# Altium footprint library mainboard.PcbLib: 70 footprints (part 5 of 5)
Each footprint in its own frame and in the unit in brackets; x right, y up, seen from the top. Pads: shape width x height; smd on the part's side, far side on the other; paste and mask are expansions set on the pad; w line width, h text height; cw(c..) or ccw(c..) is an arc to the next point about the centre after c.
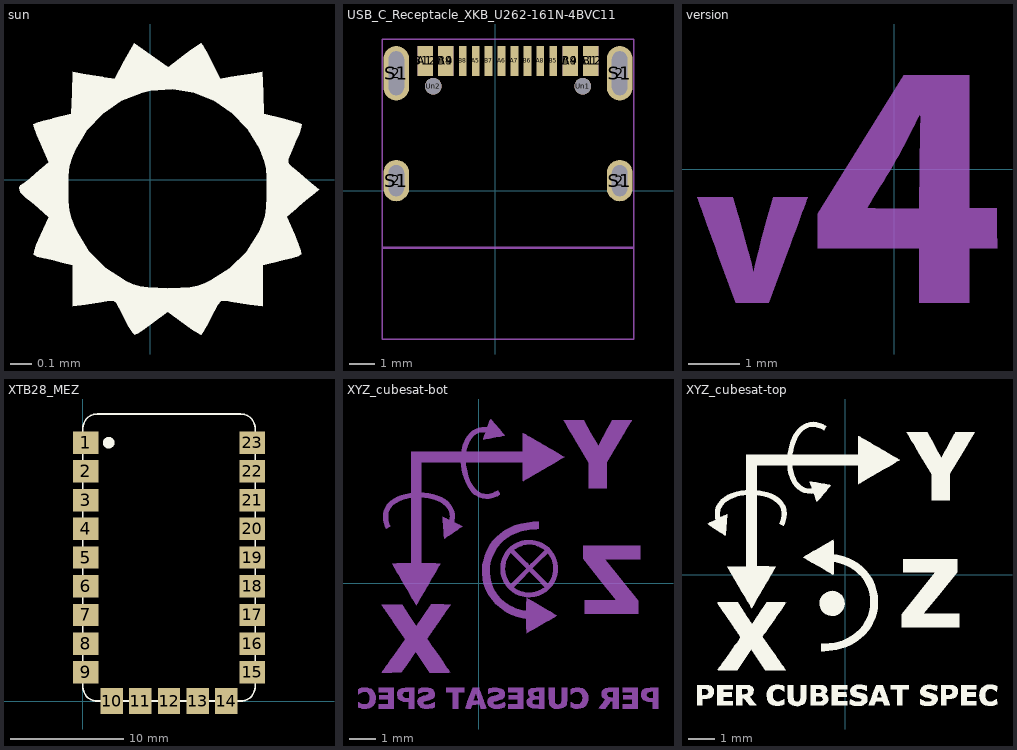
[diagram p4: the footprints below, top view; thin cyan lines are the x and y axes]

## sun [mm]
Top Overlay:
  region: 135 vertices and 1 holes, not listed, extent -0.623,-0.737 0.801,0.648

## USB_C_Receptacle_XKB_U262-161N-4BVC11 [mm]
pads (26):
  rect 0.7x1.3 on Top Paste mask-1.3: 2(-3.82,0.4) 2(4.82,0.395)
  rect 0.7x1.7 on Top Paste mask-1.7: 2(-3.82,4.545) 2(4.82,4.545)
  rect 0.6x1.15 smd mask+0.051: A1(-2.7,5.02) A4(-1.9,5.02) A9(2.9,5.02) A12(3.7,5.02)
  rect 0.3x1.15 smd mask+0.051: A5(-0.75,5.02) A6(0.25,5.02) A7(0.75,5.02) A8(1.75,5.02) B5(2.25,5.02) B6(1.25,5.02) B7(-0.25,5.02) B8(-1.25,5.02)
  rect 0.6x1.15 on Mech2 paste-1.15 mask-1.15: B1(3.7,5.02) B4(2.9,5.02) B9(-1.9,5.02) B12(-2.7,5.02)
  rrect100% 1x1.6 hole 1.2 slot 0.6 at 0 deg paste-1.6 mask+0.051: S1(-3.82,0.395) S1(4.82,0.395)
  rrect100% 1x2.1 hole 1.7 slot 0.6 at 0 deg paste-2.1 mask+0.051: S1(-3.82,4.545) S1(4.82,4.545)
  round 0.65 hole 0.65 paste-0.65 mask+0.051: Un1(3.39,4.045) Un2(-2.39,4.045)
Mechanical 4:
  lines w0.05: -4.36,-5.73 5.36,-5.73 5.36,5.87 -4.36,5.87 -4.36,-5.73
Mechanical 6:
  lines w0.1: -4.33,-2.205 5.35,-2.205
  text "J13" at 0.613,-2.777 h0.89

## version [mm]
Top Solder:
  region: -3.51,-0.549 -3.158,-0.552 -3.124,-0.673 -3.112,-0.713 -3.095,-0.774 -3.072,-0.852 -3.046,-0.944 -3.016,-1.045 -2.985,-1.153 -2.955,-1.257 -2.923,-1.368 -2.893,-1.478 -2.864,-1.582 -2.839,-1.677 -2.818,-1.758 -2.802,-1.823 -2.793,-1.864 -2.781,-1.92 -2.769,-1.966 -2.76,-1.996 -2.754,-2.007 -2.745,-1.996 -2.743,-1.984 -2.74,-1.954 -2.73,-1.902 -2.714,-1.83 -2.692,-1.74 -2.666,-1.633 -2.635,-1.513 -2.601,-1.382 -2.563,-1.241 -2.522,-1.092 -2.513,-1.058 -2.371,-0.546 -1.699,-0.546 -1.706,-0.575 -1.712,-0.591 -1.726,-0.629 -1.747,-0.687 -1.775,-0.764 -1.809,-0.857 -1.849,-0.965 -1.894,-1.086 -1.943,-1.218 -1.996,-1.359 -2.051,-1.509 -2.088,-1.607 -2.462,-2.61 -3.105,-2.617 -3.453,-1.661 -3.508,-1.51 -3.561,-1.364 -3.612,-1.226 -3.659,-1.097 -3.702,-0.979 -3.74,-0.875 -3.772,-0.786 -3.799,-0.714 -3.818,-0.661 -3.829,-0.63 -3.831,-0.625 -3.861,-0.546
  region: 1.46,-0.761 2,-0.768 2.004,-1.159 2.007,-1.549 1.46,-1.549 1.46,-2.616 0.483,-2.616 0.483,-1.549 -1.499,-1.549 -1.499,-0.869 -1.422,-0.746 0.184,1.841 1.46,1.841 hole: 0.499,1.054 0.491,1.043 0.473,1.012 0.447,0.963 0.414,0.899 0.375,0.822 0.331,0.736 0.289,0.651 0.233,0.54 0.182,0.439 0.133,0.346 0.084,0.255 0.031,0.162 -0.026,0.063 -0.092,-0.046 -0.167,-0.17 -0.211,-0.241 -0.273,-0.343 -0.331,-0.437 -0.383,-0.524 -0.429,-0.599 -0.467,-0.661 -0.495,-0.708 -0.512,-0.737 -0.517,-0.746 -0.514,-0.75 -0.499,-0.754 -0.471,-0.756 -0.428,-0.758 -0.368,-0.76 -0.288,-0.761 -0.188,-0.762 -0.065,-0.762 -0.022,-0.762 0.48,-0.762 0.488,0.054 0.489,0.199 0.491,0.338 0.493,0.469 0.494,0.591 0.496,0.699 0.498,0.793 0.5,0.869 0.501,0.925 0.503,0.958 0.503,0.962 0.505,1.007 0.504,1.039 0.5,1.054

## XTB28_MEZ [mil]
pads (23):
  rect 90x78 smd paste-90 mask+2.5: 1(10,900) 2(10,800) 3(10,700) 4(10,600) 5(10,500) 6(10,400) 7(10,300) 8(10,200) 9(10,100) 15(590,100) 16(590,200) 17(590,300) 18(590,400) 19(590,500) 20(590,600) 21(590,700) 22(590,800) 23(590,900)
  rect 78x90 smd paste-90 mask+2.5: 10(100,0) 11(200,0) 12(300,0) 13(400,0) 14(500,0)
Top Overlay:
  circle w20: c90,900 r10
  lines w6: 0,50 ccw(c50,50) 50,0 550,0 ccw(c550,50) 600,50 600,950 ccw(c550,950) 550,1000 50,1000 ccw(c50,950) 0,950 0,50

## XYZ_cubesat-bot [mm]
Bottom Overlay:
  drawing of 20 lines, arcs and shapes, not listed

## XYZ_cubesat-top [mm]
Top Overlay:
  drawing of 20 lines, arcs and shapes, not listed